# Altium integrated library CGA2B3X7R1H103K050BB.IntLib: 1 symbol
Pins are listed as number, name and electrical type; pins without a type are passive.

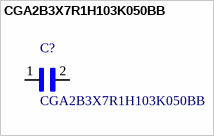
[diagram p0: symbol CGA2B3X7R1H103K050BB]

## CGA2B3X7R1H103K050BB
designator C?
/ SMD Multilayer Ceramic Capacitor, CGA Series, 0.01 F, 10%, X7R, 50 V, 0402 [1005 Metric] /; MF: TDK; MP: CGA2B3X7R1H103K050BB; Package: 1005 TDK; SnapEDA_Link: https://www.snapeda.com/parts/CGA2B3X7R1H103K050BB/TDK/view-part/?ref=snap; Price: None; Availability: Unavailable; Value: *
footprint *CAPC1005X55N
pins: 1, 2